# Altium footprint library PcbLib.PcbLib: 43 footprints (part 1 of 3)
Each footprint in its own frame and in the unit in brackets; x right, y up, seen from the top. Pads: shape width x height; smd on the part's side, far side on the other; paste and mask are expansions set on the pad; w line width, h text height; cw(c..) or ccw(c..) is an arc to the next point about the centre after c.
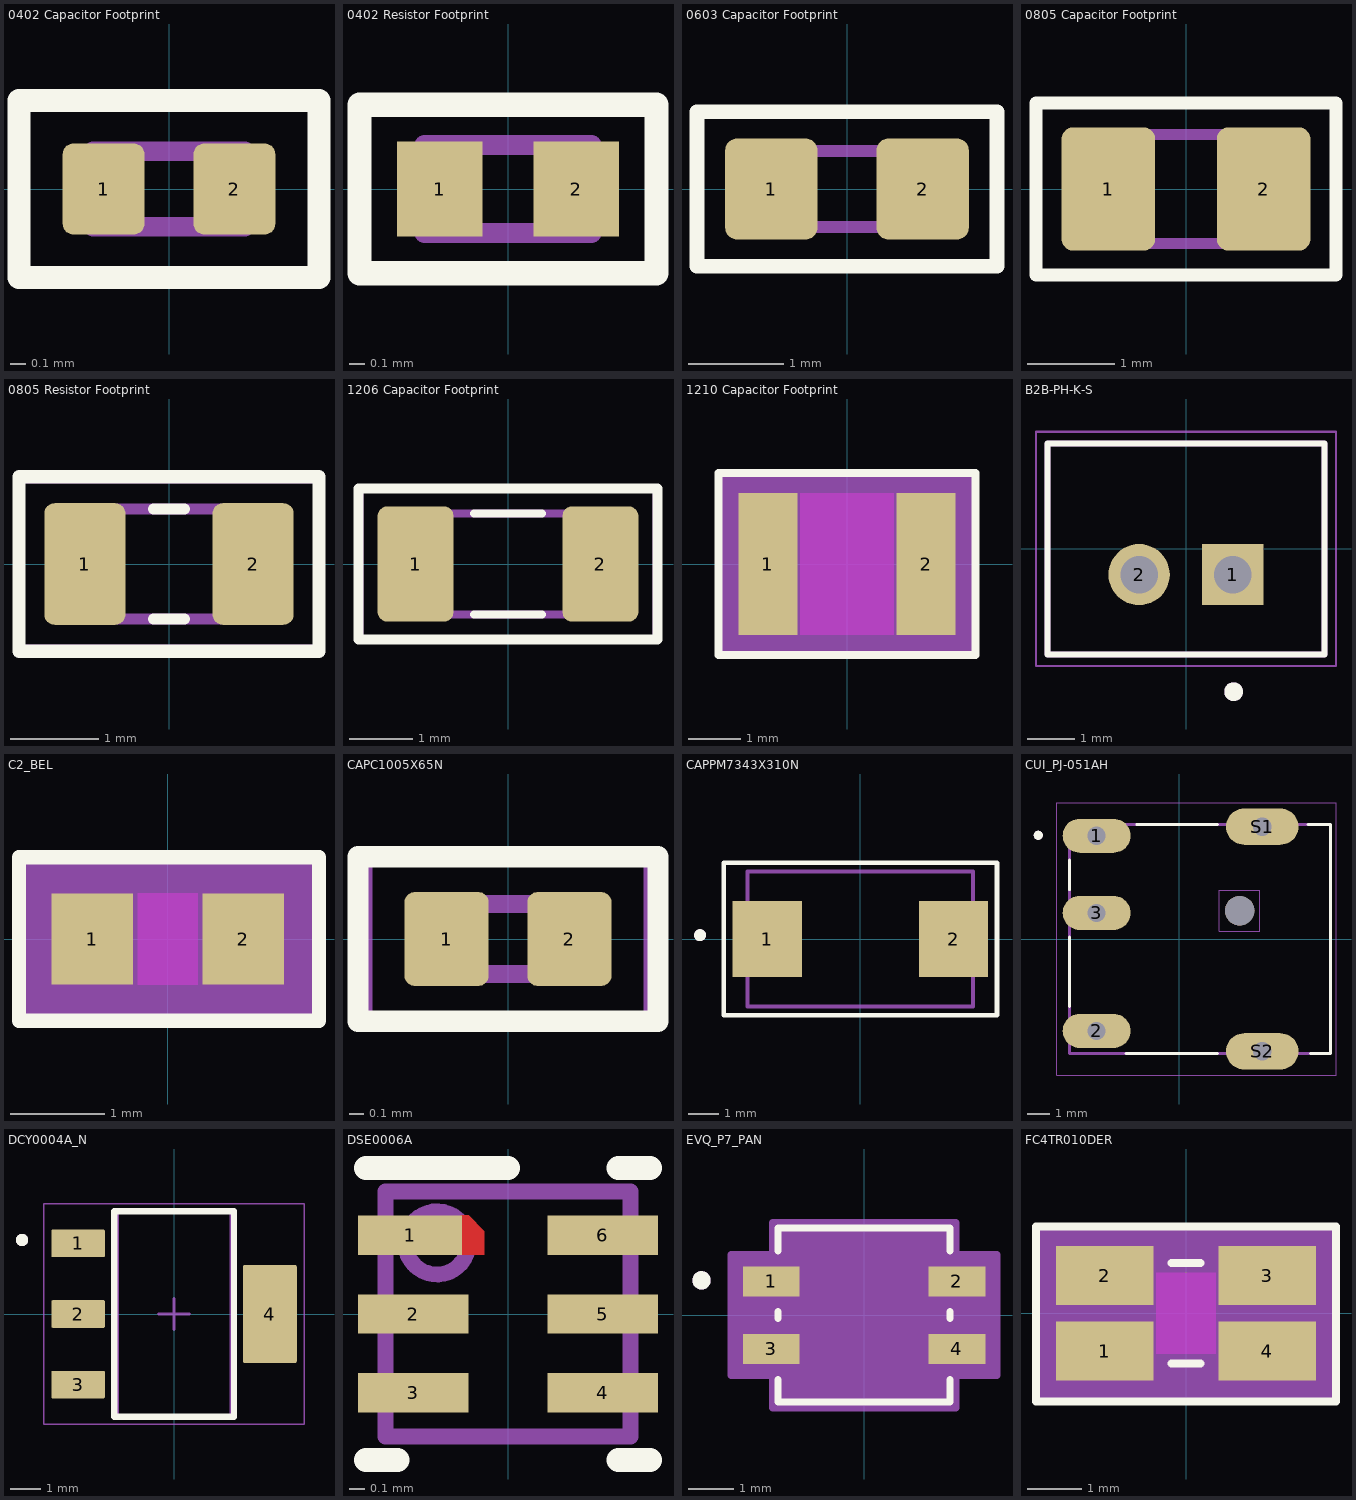
[diagram p0: the footprints below, top view; thin cyan lines are the x and y axes]

## 0402 Capacitor Footprint [mm] "Generic 0402 Capacitor Footprint (CL05A105KO5NNNC)"
pads (2):
  rrect25% 0.54x0.6 smd: 1(-0.432,0) 2(0.432,0)
Top Overlay:
  lines w0.152: -0.991,-0.584 -0.991,0.584 0.991,0.584 0.991,-0.584 -0.991,-0.584
Top 3D Body:
  lines w0.127: -0.5,-0.25 0.5,-0.25 0.5,0.25 -0.5,0.25 -0.5,-0.25
Top Courtyard:
  lines w0.05: -0.952,-0.55 0.952,-0.55 0.952,0.55 -0.952,0.55 -0.952,-0.55
3D body "step_temp.STEP": height 0.55, standoff 0, extent -0.5,-0.25 0.5,0.25

## 0402 Resistor Footprint [mm] "Generic 0402 Resistor Footprint (RESC1005X37N)"
pads (2):
  rect 0.54x0.6 smd: 1(-0.432,0) 2(0.432,0)
Top Overlay:
  lines w0.152: -0.94,-0.533 -0.94,0.533 0.94,0.533 0.94,-0.533 -0.94,-0.533
Top 3D Body:
  lines w0.127: -0.53,-0.28 -0.53,0.28 0.53,0.28 0.53,-0.28 -0.53,-0.28
Top Courtyard:
  lines w0.05: -0.95,-0.55 -0.95,0.55 0.95,0.55 0.95,-0.55 -0.95,-0.55
3D body "step_temp.STEP": height 0.37, standoff 0, extent -0.5,-0.25 0.5,0.25

## 0603 Capacitor Footprint [mm] "CAPC1608X105N"
pads (2):
  rrect25% 0.97x1.06 smd: 1(-0.794,0) 2(0.794,0)
Top Overlay:
  lines w0.152: -1.575,-0.813 1.575,-0.813 1.575,0.813 -1.575,0.813 -1.575,-0.813
Top 3D Body:
  lines w0.127: -0.8,-0.4 0.8,-0.4 0.8,0.4 -0.8,0.4 -0.8,-0.4
Top Courtyard:
  lines w0.05: -1.529,-0.78 1.529,-0.78 1.529,0.78 -1.529,0.78 -1.529,-0.78
3D body "step_temp.STEP": height 1.05, standoff 0, extent -0.8,-0.4 0.8,0.4

## 0805 Capacitor Footprint [mm] "CAPC2012X140N"
pads (2):
  rrect25% 1.08x1.42 smd: 1(-0.895,0) 2(0.895,0)
Top Overlay:
  lines w0.152: -1.727,-0.991 1.727,-0.991 1.727,0.991 -1.727,0.991 -1.727,-0.991
Top 3D Body:
  lines w0.127: -1,-0.63 -1,0.63 1,0.63 1,-0.63 -1,-0.63
Top Courtyard:
  lines w0.05: -1.685,-0.96 -1.685,0.96 1.685,0.96 1.685,-0.96 -1.685,-0.96
3D body "step_temp.STEP": height 1.4, standoff 0, extent -1,-0.625 1,0.625

## 0805 Resistor Footprint [mm] "RESC2012X60N"
height 0.6
pads (2):
  rrect25% 0.92x1.38 smd paste+0 mask+0.102: 1(-0.955,0) 2(0.955,0)
Top Overlay:
  lines w0.127: -0.175,-0.625 0.175,-0.625 ; -0.175,0.625 0.175,0.625
  lines w0.152: -1.702,-0.991 -1.702,0.991 1.702,0.991 1.702,-0.991 -1.702,-0.991
Top 3D Body:
  lines w0.127: -1,-0.625 -1,0.625 1,0.625 1,-0.625 -1,-0.625
Top Courtyard:
  lines w0.05: -1.665,-0.94 1.665,-0.94 1.665,0.94 -1.665,0.94 -1.665,-0.94
3D body "step_temp.STEP": height 0.6, standoff 0, extent -1,-0.625 1,0.625

## 1206 Capacitor Footprint [mm] "Generic Capacitor Footprint for 1206 (CAPC3216X180N)"
pads (2):
  rrect25% 1.2x1.82 smd: 1(-1.46,0) 2(1.46,0)
Top Overlay:
  lines w0.127: -0.54,-0.8 0.54,-0.8 ; -0.54,0.8 0.54,0.8
  lines w0.152: -2.362,-1.194 2.362,-1.194 2.362,1.194 -2.362,1.194 -2.362,-1.194
Top 3D Body:
  lines w0.127: -1.6,-0.8 -1.6,0.8 1.6,0.8 1.6,-0.8 -1.6,-0.8
Top Courtyard:
  lines w0.05: -2.31,-1.16 -2.31,1.16 2.31,1.16 2.31,-1.16 -2.31,-1.16
3D body "step_temp.STEP": height 1.8, standoff 0, extent -1.6,-0.8 1.6,0.8

## 1210 Capacitor Footprint [mil] "CAP_CC1210_YAG"
pads (2):
  rect 44x106 smd paste+0 mask+0: 1(-59,0) 2(59,0)
Top Layer keep-out:
  region: -35,-51 -35,51 35,51 35,-51
Top Overlay:
  lines w6: -96,-68 -96,68 96,68 96,-68 -96,-68
Keep-Out Layer:
  region: -35,-53 -35,53 35,53 35,-53
Top 3D Body:
  lines w1: -67,-53 -67,53 ; -67,-53 67,-53 ; -67,-53 -37,-53 -37,53 -67,53 ; -67,-53 -67,53 ; -67,53 67,53 ; 67,-53 67,53 ; 67,-53 67,53 ; 67,-53 37,-53 37,53 67,53
Top Courtyard:
  region: 91,-63 -91,-63 -91,63 91,63
  lines w6: -91,-63 91,-63 91,63 -91,63 -91,-63
3D body "CAP_CC1210_YAG.step": height 105.98, standoff 0, extent -67.01,-52.99 67.01,52.99

## B2B-PH-K-S [mm]
pads (2):
  rect 1.308x1.308 / inner round 1.308 / far side rect 1.308x1.308 hole 0.8: 1(1,-0.55)
  round 1.308 hole 0.8: 2(-1,-0.55)
Top Overlay:
  circle w0.2: c1.016,-3.048 r0.1
  lines w0.127: -2.95,-2.25 2.95,-2.25 2.95,2.25 -2.95,2.25 -2.95,-2.25
Top 3D Body:
  circle w0.2: c1.016,-3.048 r0.1
  lines w0.127: -2.95,-2.25 -2.95,2.25 2.95,2.25 2.95,-2.25 -2.95,-2.25
Top Courtyard:
  lines w0.05: -3.2,-2.5 -3.2,2.5 3.2,2.5 3.2,-2.5 -3.2,-2.5
3D body "step_temp.STEP": height 6, standoff -3.4, extent -2.95,-2.25 2.95,2.25

## C2_BEL [mil]
pads (2):
  rect 34x38 smd paste+0 mask+0: 1(-31.5,0) 2(31.5,0)
Top Layer keep-out:
  region: -12.5,-17 -12.5,17 12.5,17 12.5,-17
Top Overlay:
  lines w6: -62,-34 63,-34 63,34 -62,34 -62,-34
Keep-Out Layer:
  region: -12.5,-19 -12.5,19 12.5,19 12.5,-19
Top 3D Body:
  lines w1: -34.5,-19 -34.5,19 ; -34.5,-19 -14.5,-19 -14.5,19 -34.5,19 ; -34.5,-19 34.5,-19 ; -34.5,-19 -34.5,19 ; -34.5,19 34.5,19 ; 34.5,-19 14.5,-19 14.5,19 34.5,19 ; 34.5,-19 34.5,19 ; 34.5,-19 34.5,19
Top Courtyard:
  region: 58.5,-29 -58.5,-29 -58.5,29 58.5,29
  lines w6: -58.5,-29 -58.5,29 58.5,29 58.5,-29 -58.5,-29
3D body "C2_BEL.step": height 22.01, standoff 0, extent -34.49,-19.02 34.49,19.02

## CAPC1005X65N [mm]
pads (2):
  rrect25% 0.6x0.67 smd: 1(-0.437,0) 2(0.437,0)
Top Overlay:
  lines w0.152: -1.067,-0.584 -1.067,0.584 1.067,0.584 1.067,-0.584 -1.067,-0.584
Top 3D Body:
  lines w0.127: -0.5,-0.25 -0.5,0.25 0.5,0.25 0.5,-0.25 -0.5,-0.25
Top Courtyard:
  lines w0.05: -0.987,-0.585 -0.987,0.585 0.987,0.585 0.987,-0.585 -0.987,-0.585
3D body "step_temp.STEP": height 0.65, standoff 0, extent -0.5,-0.25 0.5,0.25

## CAPPM7343X310N [mm]
pads (2):
  rect 2.31x2.52 smd: 1(-3.1,0) 2(3.1,0)
Top Overlay:
  circle w0.2: c-5.334,0.127 r0.1
  lines w0.152: -4.547,-2.54 4.547,-2.54 4.547,2.54 -4.547,2.54 -4.547,-2.54
Top 3D Body:
  circle w0.2: c-5.334,0.127 r0.1
  lines w0.127: -3.75,-2.25 3.75,-2.25 3.75,2.25 -3.75,2.25 -3.75,-2.25
Top Courtyard:
  lines w0.05: -4.505,-2.5 4.505,-2.5 4.505,2.5 -4.505,2.5 -4.505,-2.5
3D body "step_temp.STEP": height 3.1, standoff 0, extent -3.65,-2.15 3.65,2.15

## CUI_PJ-051AH [mm]
height 7.4
pads (6):
  oval 3x1.5 hole 0.8 square: 1(-3.65,4.55) 2(-3.65,-4.05) 3(-3.65,1.15)
  oval 3.2x1.6 hole 0.8 square: S1(3.65,4.95) S2(3.65,-4.95)
  round 1.3 hole 1.3 unplated: ""(2.65,1.25)
Top Overlay:
  circle w0.2: c-6.223,4.572 r0.1
  lines w0.127: -4.85,-2.98 -4.85,0.08 ; -4.85,2.17 -4.85,3.48 ; -2.35,-5.05 1.67,-5.05 ; -1.88,5.05 1.68,5.05 ; 5.67,5.05 6.65,5.05 6.65,-5.05 5.77,-5.05
Mechanical 1:
  lines w0: 1.75,0.35 1.75,2.15 3.55,2.15 3.55,0.35 1.75,0.35
Top 3D Body:
  circle w0.2: c-6.223,4.572 r0.1
  lines w0.127: -4.85,-5.05 -4.85,5.05 6.65,5.05 6.65,-5.05 -4.85,-5.05
Top Courtyard:
  lines w0.05: -5.4,-6 6.9,-6 6.9,6 -5.4,6 -5.4,-6
3D body "step_temp.STEP": height 7.3, standoff -2.5, extent -4.986,-5.096 6.764,5.004

## DCY0004A_N [mm] "SOT223, 4-Leads, Body 6.7x3.7mm, Pitch 2.3mm, IPC Medium Density"
height 1.8
pads (4):
  rrect11% 1.75x0.9 smd: 1(-3.125,2.3) 2(-3.125,0) 3(-3.125,-2.3)
  rrect6% 1.75x3.2 smd: 4(3.125,0)
Top Overlay:
  circle w0.2: c-4.953,2.413 r0.1
  lines w0.2: -1.95,-3.35 -1.95,3.35 1.95,3.35 1.95,-3.35 -1.95,-3.35
Mechanical 1:
  text ".Designator" at -1.651,-0.254 h0.8
Top 3D Body:
  circle w0.2: c-4.953,2.413 r0.1
  lines w0.1: -1.85,-3.35 -1.85,3.35 1.85,3.35 1.85,-3.35 -1.85,-3.35
Top Courtyard:
  lines w0.05: -4.25,-3.6 -4.25,3.6 4.25,3.6 4.25,-3.6 -4.25,-3.6
  lines w0.1: -0.5,0 0.5,0 ; 0,-0.5 0,0.5
3D body "SOT-223.stp": height 1.62, standoff -0.03, extent -3.5,-3.25 3.5,3.25

## DSE0006A [mm]
pads (6):
  rect 0.66x0.25 smd paste+0 mask+0.051: 1(-0.62,0.5)
  rect 0.7x0.25 smd paste+0 mask+0.051: 2(-0.6,0) 3(-0.6,-0.5) 4(0.6,-0.5) 5(0.6,0) 6(0.6,0.5)
Top Layer:
  region: -0.3,0.375 -0.3,0.625 -0.25,0.625 -0.15,0.525 -0.15,0.375
Top Overlay:
  lines w0.152: -0.9,-0.925 -0.7,-0.925 ; -0.9,0.925 0,0.925 ; 0.7,-0.925 0.9,-0.925 ; 0.7,0.925 0.9,0.925
Top Paste:
  region: -0.3,0.375 -0.3,0.625 -0.25,0.625 -0.15,0.525 -0.15,0.375
Top Solder:
  region: -0.351,0.375 -0.351,0.625 -0.35,0.635 -0.347,0.644 -0.342,0.653 -0.336,0.661 -0.328,0.667 -0.319,0.672 -0.31,0.675 -0.3,0.676 -0.25,0.676 -0.24,0.675 -0.231,0.672 -0.222,0.667 -0.214,0.661 -0.114,0.561 -0.108,0.553 -0.103,0.544 -0.1,0.535 -0.099,0.525 -0.099,0.375 -0.1,0.365 -0.103,0.356 -0.108,0.347 -0.114,0.339 -0.122,0.333 -0.131,0.328 -0.14,0.325 -0.15,0.324 -0.3,0.324 -0.31,0.325 -0.319,0.328 -0.328,0.333 -0.336,0.339 -0.342,0.347 -0.347,0.356 -0.35,0.365
Top 3D Body:
  circle w0.1: c-0.45,0.45 r0.2
  lines w0.1: -0.775,-0.775 -0.775,0.775 0.775,0.775 0.775,-0.775 -0.775,-0.775
3D body "TPS3700DSER.step": height 0.81, standoff 0.01, extent -0.75,-0.775 0.75,0.725

## EVQ_P7_PAN [mil]
pads (4):
  rect 49x26 smd paste+0 mask+0: 1(-80,29.13) 2(80,29.13) 3(-80,-29.13) 4(80,-29.13)
Top Overlay:
  circle w7.87: c-140,30 r3.94
  lines w6: -74,-55.23 -74,-75 74,-75 74,-55.23 ; -74,-3.03 -74,3.03 ; -74,55.23 -74,75 74,75 74,55.23 ; 74,-3.03 74,3.03
Top 3D Body:
  circle w0: c-55.5,29.13 r3
  circle w7.87: c-140,30 r3.94
  lines w0: -12,70 ccw(c0,70) 12,70
  lines w1: -69,-70 69,-70 69,70 -69,70 -69,-70
Top Courtyard:
  region: -79,-52.13 -114.5,-52.13 -114.5,52.13 -79,52.13 -79,80 79,80 79,52.13 114.5,52.13 114.5,-52.13 79,-52.13 79,-80 -79,-80
  lines w6: -114.5,-52.13 -114.5,52.13 -79,52.13 -79,80 79,80 79,52.13 114.5,52.13 114.5,-52.13 79,-52.13 79,-80 -79,-80 -79,-52.13 -114.5,-52.13
3D body "EVQ-P7A01P.STEP": height 53.65, standoff 0.5, extent -92.52,-82.68 92.52,57.09

## FC4TR010DER [mil]
pads (4):
  rect 71x43 smd paste+0 mask+0: 1(-59.05,-27.41) 2(-59.06,27.41) 3(59.06,27.41) 4(59.05,-27.41)
Top Layer keep-out:
  region: -21.55,-29.5 -21.55,29.5 21.55,29.5 21.55,-29.5
Top Overlay:
  lines w6: -10.46,-36.5 10.46,-36.5 ; -10.46,36.5 10.46,36.5 ; -109,-64 -109,63 109,63 109,-64 -109,-64
Top 3D Body:
  lines w1: -63,-31.5 63,-31.5 63,31.5 -63,31.5 -63,-31.5
Top Courtyard:
  region: 104.56,-58.91 -104.56,-58.91 -104.56,58.91 104.56,58.91
  lines w6: -104.56,-58.91 -104.56,58.91 104.56,58.91 104.56,-58.91 -104.56,-58.91